# Altium footprint library QFN50P500X500X80-29N-D.PcbLib: 1 footprints
Each footprint in its own frame and in the unit in brackets; x right, y up, seen from the top. Pads: shape width x height; smd on the part's side, far side on the other; paste and mask are expansions set on the pad; w line width, h text height; cw(c..) or ccw(c..) is an arc to the next point about the centre after c.
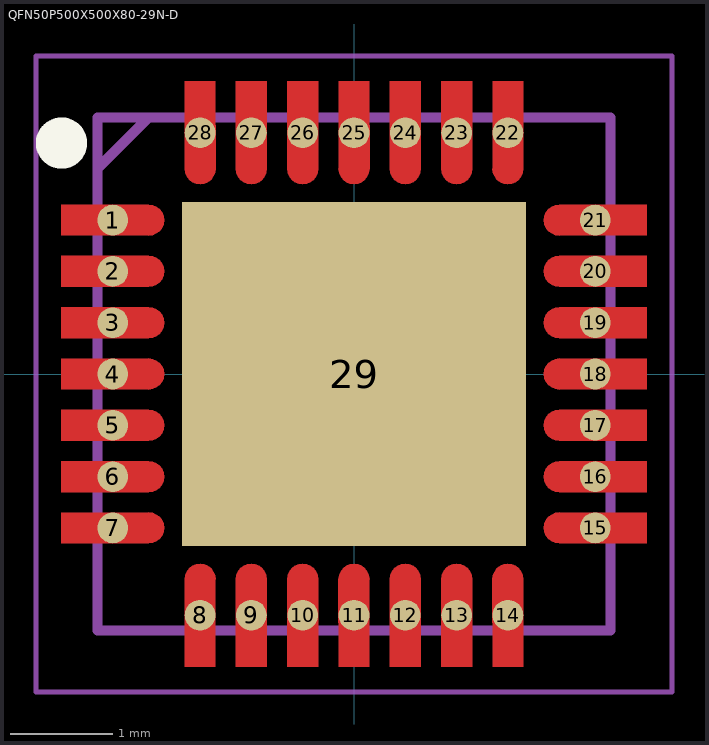
[diagram p0: the footprint, top view; thin cyan lines are the x and y axes]

## QFN50P500X500X80-29N-D [mm]
pads (29):
  round 0.3 smd: 1(-2.35,1.5) 2(-2.35,1) 3(-2.35,0.5) 4(-2.35,0) 5(-2.35,-0.5) 6(-2.35,-1) 7(-2.35,-1.5) 8(-1.5,-2.35) 9(-1,-2.35) 10(-0.5,-2.35) 11(0,-2.35) 12(0.5,-2.35) 13(1,-2.35) 14(1.5,-2.35) 15(2.35,-1.5) 16(2.35,-1) 17(2.35,-0.5) 18(2.35,0) 19(2.35,0.5) 20(2.35,1) 21(2.35,1.5) 22(1.5,2.35) 23(1,2.35) 24(0.5,2.35) 25(0,2.35) 26(-0.5,2.35) 27(-1,2.35) 28(-1.5,2.35)
  rrect0% 3.35x3.35 smd: 29(0,0)
Top Layer:
  region: -1.35,2.85 -1.349,2 -1.354,1.961 -1.369,1.924 -1.393,1.893 -1.424,1.869 -1.461,1.854 -1.5,1.849 -1.539,1.854 -1.576,1.869 -1.607,1.893 -1.631,1.924 -1.646,1.961 -1.651,2 -1.65,2 -1.65,2.85
  region: -0.85,2.85 -0.849,2 -0.854,1.961 -0.869,1.924 -0.893,1.893 -0.924,1.869 -0.961,1.854 -1,1.849 -1.039,1.854 -1.076,1.869 -1.107,1.893 -1.131,1.924 -1.146,1.961 -1.151,2 -1.15,2 -1.15,2.85
  region: -0.35,2.85 -0.349,2 -0.354,1.961 -0.369,1.924 -0.393,1.893 -0.424,1.869 -0.461,1.854 -0.5,1.849 -0.539,1.854 -0.576,1.869 -0.607,1.893 -0.631,1.924 -0.646,1.961 -0.651,2 -0.65,2 -0.65,2.85
  region: 0.15,2.85 0.151,2 0.146,1.961 0.131,1.924 0.107,1.893 0.076,1.869 0.039,1.854 0,1.849 -0.039,1.854 -0.076,1.869 -0.107,1.893 -0.131,1.924 -0.146,1.961 -0.151,2 -0.15,2 -0.15,2.85
  region: 0.65,2.85 0.651,2 0.646,1.961 0.631,1.924 0.607,1.893 0.576,1.869 0.539,1.854 0.5,1.849 0.461,1.854 0.424,1.869 0.393,1.893 0.369,1.924 0.354,1.961 0.349,2 0.35,2 0.35,2.85
  region: 1.15,2.85 1.151,2 1.146,1.961 1.131,1.924 1.107,1.893 1.076,1.869 1.039,1.854 1,1.849 0.961,1.854 0.924,1.869 0.893,1.893 0.869,1.924 0.854,1.961 0.849,2 0.85,2 0.85,2.85
  region: 1.65,2.85 1.651,2 1.646,1.961 1.631,1.924 1.607,1.893 1.576,1.869 1.539,1.854 1.5,1.849 1.461,1.854 1.424,1.869 1.393,1.893 1.369,1.924 1.354,1.961 1.349,2 1.35,2 1.35,2.85
  region: 2.85,1.35 2,1.349 1.961,1.354 1.924,1.369 1.893,1.393 1.869,1.424 1.854,1.461 1.849,1.5 1.854,1.539 1.869,1.576 1.893,1.607 1.924,1.631 1.961,1.646 2,1.651 2,1.65 2.85,1.65
  region: 2.85,0.85 2,0.849 1.961,0.854 1.924,0.869 1.893,0.893 1.869,0.924 1.854,0.961 1.849,1 1.854,1.039 1.869,1.076 1.893,1.107 1.924,1.131 1.961,1.146 2,1.151 2,1.15 2.85,1.15
  region: 2.85,0.35 2,0.349 1.961,0.354 1.924,0.369 1.893,0.393 1.869,0.424 1.854,0.461 1.849,0.5 1.854,0.539 1.869,0.576 1.893,0.607 1.924,0.631 1.961,0.646 2,0.651 2,0.65 2.85,0.65
  region: 2.85,-0.15 2,-0.151 1.961,-0.146 1.924,-0.131 1.893,-0.107 1.869,-0.076 1.854,-0.039 1.849,0 1.854,0.039 1.869,0.076 1.893,0.107 1.924,0.131 1.961,0.146 2,0.151 2,0.15 2.85,0.15
  region: 2.85,-0.65 2,-0.651 1.961,-0.646 1.924,-0.631 1.893,-0.607 1.869,-0.576 1.854,-0.539 1.849,-0.5 1.854,-0.461 1.869,-0.424 1.893,-0.393 1.924,-0.369 1.961,-0.354 2,-0.349 2,-0.35 2.85,-0.35
  region: 2.85,-1.15 2,-1.151 1.961,-1.146 1.924,-1.131 1.893,-1.107 1.869,-1.076 1.854,-1.039 1.849,-1 1.854,-0.961 1.869,-0.924 1.893,-0.893 1.924,-0.869 1.961,-0.854 2,-0.849 2,-0.85 2.85,-0.85
  region: 2.85,-1.65 2,-1.651 1.961,-1.646 1.924,-1.631 1.893,-1.607 1.869,-1.576 1.854,-1.539 1.849,-1.5 1.854,-1.461 1.869,-1.424 1.893,-1.393 1.924,-1.369 1.961,-1.354 2,-1.349 2,-1.35 2.85,-1.35
  region: 1.35,-2.85 1.349,-2 1.354,-1.961 1.369,-1.924 1.393,-1.893 1.424,-1.869 1.461,-1.854 1.5,-1.849 1.539,-1.854 1.576,-1.869 1.607,-1.893 1.631,-1.924 1.646,-1.961 1.651,-2 1.65,-2 1.65,-2.85
  region: 0.85,-2.85 0.849,-2 0.854,-1.961 0.869,-1.924 0.893,-1.893 0.924,-1.869 0.961,-1.854 1,-1.849 1.039,-1.854 1.076,-1.869 1.107,-1.893 1.131,-1.924 1.146,-1.961 1.151,-2 1.15,-2 1.15,-2.85
  region: 0.35,-2.85 0.349,-2 0.354,-1.961 0.369,-1.924 0.393,-1.893 0.424,-1.869 0.461,-1.854 0.5,-1.849 0.539,-1.854 0.576,-1.869 0.607,-1.893 0.631,-1.924 0.646,-1.961 0.651,-2 0.65,-2 0.65,-2.85
  region: -0.15,-2.85 -0.151,-2 -0.146,-1.961 -0.131,-1.924 -0.107,-1.893 -0.076,-1.869 -0.039,-1.854 0,-1.849 0.039,-1.854 0.076,-1.869 0.107,-1.893 0.131,-1.924 0.146,-1.961 0.151,-2 0.15,-2 0.15,-2.85
  region: -0.65,-2.85 -0.651,-2 -0.646,-1.961 -0.631,-1.924 -0.607,-1.893 -0.576,-1.869 -0.539,-1.854 -0.5,-1.849 -0.461,-1.854 -0.424,-1.869 -0.393,-1.893 -0.369,-1.924 -0.354,-1.961 -0.349,-2 -0.35,-2 -0.35,-2.85
  region: -1.15,-2.85 -1.151,-2 -1.146,-1.961 -1.131,-1.924 -1.107,-1.893 -1.076,-1.869 -1.039,-1.854 -1,-1.849 -0.961,-1.854 -0.924,-1.869 -0.893,-1.893 -0.869,-1.924 -0.854,-1.961 -0.849,-2 -0.85,-2 -0.85,-2.85
  region: -1.65,-2.85 -1.651,-2 -1.646,-1.961 -1.631,-1.924 -1.607,-1.893 -1.576,-1.869 -1.539,-1.854 -1.5,-1.849 -1.461,-1.854 -1.424,-1.869 -1.393,-1.893 -1.369,-1.924 -1.354,-1.961 -1.349,-2 -1.35,-2 -1.35,-2.85
  region: -2.85,-1.35 -2,-1.349 -1.961,-1.354 -1.924,-1.369 -1.893,-1.393 -1.869,-1.424 -1.854,-1.461 -1.849,-1.5 -1.854,-1.539 -1.869,-1.576 -1.893,-1.607 -1.924,-1.631 -1.961,-1.646 -2,-1.651 -2,-1.65 -2.85,-1.65
  region: -2.85,-0.85 -2,-0.849 -1.961,-0.854 -1.924,-0.869 -1.893,-0.893 -1.869,-0.924 -1.854,-0.961 -1.849,-1 -1.854,-1.039 -1.869,-1.076 -1.893,-1.107 -1.924,-1.131 -1.961,-1.146 -2,-1.151 -2,-1.15 -2.85,-1.15
  region: -2.85,-0.35 -2,-0.349 -1.961,-0.354 -1.924,-0.369 -1.893,-0.393 -1.869,-0.424 -1.854,-0.461 -1.849,-0.5 -1.854,-0.539 -1.869,-0.576 -1.893,-0.607 -1.924,-0.631 -1.961,-0.646 -2,-0.651 -2,-0.65 -2.85,-0.65
  region: -2.85,0.15 -2,0.151 -1.961,0.146 -1.924,0.131 -1.893,0.107 -1.869,0.076 -1.854,0.039 -1.849,0 -1.854,-0.039 -1.869,-0.076 -1.893,-0.107 -1.924,-0.131 -1.961,-0.146 -2,-0.151 -2,-0.15 -2.85,-0.15
  region: -2.85,0.65 -2,0.651 -1.961,0.646 -1.924,0.631 -1.893,0.607 -1.869,0.576 -1.854,0.539 -1.849,0.5 -1.854,0.461 -1.869,0.424 -1.893,0.393 -1.924,0.369 -1.961,0.354 -2,0.349 -2,0.35 -2.85,0.35
  region: -2.85,1.15 -2,1.151 -1.961,1.146 -1.924,1.131 -1.893,1.107 -1.869,1.076 -1.854,1.039 -1.849,1 -1.854,0.961 -1.869,0.924 -1.893,0.893 -1.924,0.869 -1.961,0.854 -2,0.849 -2,0.85 -2.85,0.85
  region: -2.85,1.65 -2,1.651 -1.961,1.646 -1.924,1.631 -1.893,1.607 -1.869,1.576 -1.854,1.539 -1.849,1.5 -1.854,1.461 -1.869,1.424 -1.893,1.393 -1.924,1.369 -1.961,1.354 -2,1.349 -2,1.35 -2.85,1.35
Top Overlay:
  circle w0.25: c-2.85,2.25 r0.125
Mechanical 15:
  lines w0.1: -2.5,2 -2,2.5 ; -2.5,-2.5 -2.5,2.5 2.5,2.5 2.5,-2.5 -2.5,-2.5
Mechanical 20:
  lines w0.05: -3.1,-3.1 -3.1,3.1 3.1,3.1 3.1,-3.1 -3.1,-3.1
3D body "CP2102N-A02-GQFN28R.stp": height 0.8, standoff 0, extent -2.55,-2.55 2.55,2.55